# EAGLE library part BD6211F (library BD6211F)
Rohm DC Brush Motor Drives (7V)
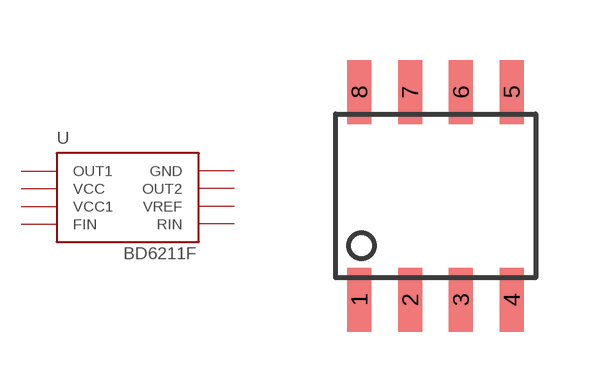
[diagram p0: symbol with the pads of SOP8; footprint SOP8]

Designator prefix -

## BD6211F  [SOP8]
1  OUT1
2  VCC
3  VCC1
4  FIN
5  RIN
6  VREF
7  OUT2
8  GND

## Footprint SOP8 (pad centres in mm)
smd 0.6 x 1.6: 1 -1.905,-2.6; 2 -0.635,-2.6; 3 0.635,-2.6; 4 1.905,-2.6; 5 1.905,2.6; 6 0.635,2.6; 7 -0.635,2.6; 8 -1.905,2.6